# EAGLE library part TBA800 (library Audio-Power-amlifier)
http://www.datasheetcatalog.org/datasheets/480/499897_DS.pdf
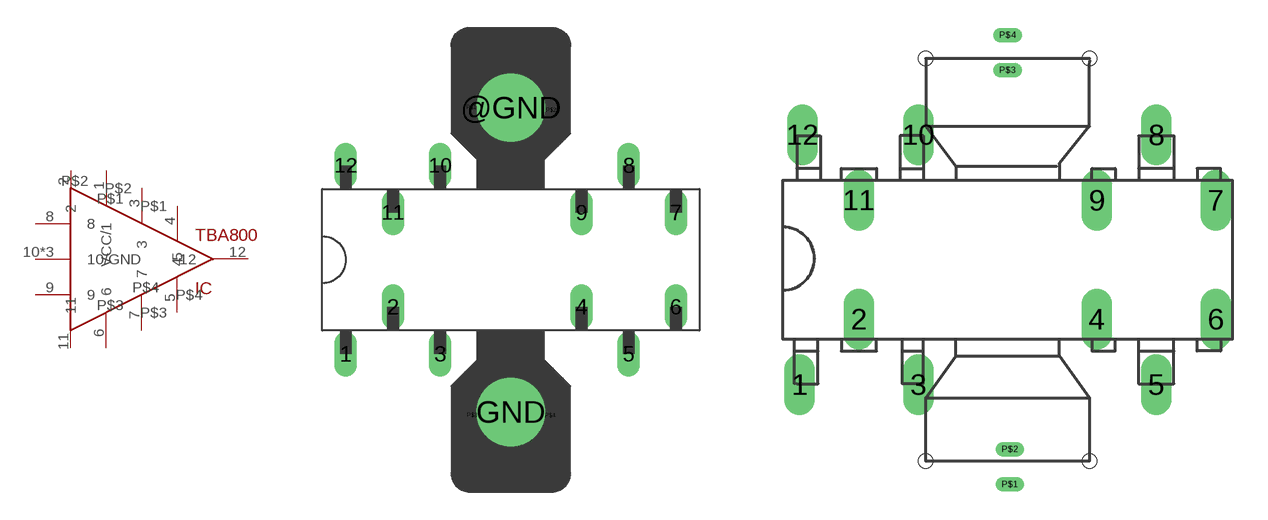
[diagram p21: symbol with the pads of CE82; footprints CE82, FINDIP12]

Designator prefix IC

## TBA800CB-155  [CE82]
1  VCC/1  pwr
2  2  nc
3  3
4  4
5  5
6  6
7  7
8  8  in
9  9  in
10  10/GND  pwr
11  11  nc
12  12  out
@GND  10/GND  pwr
GND  10/GND  pwr
P$1  P$1  pwr
P$2  P$2  pwr
P$3  P$3  pwr
P$4  P$4  pwr

## TBA800  [FINDIP12]
1  VCC/1  pwr
2  2  nc
3  3
4  4
5  5
6  6
7  7
8  8  in
9  9  in
10  10/GND  pwr
11  11  nc
12  12  out
P$1  P$1  pwr
P$2  P$2  pwr
P$3  P$3  pwr
P$4  P$4  pwr

## Footprint CE82 (pad centres in mm)
Package DIL 16 (CE83)
drill 0.7 long: 1 -8.89,-5.08; 2 -6.35,-2.54; 3 -3.81,-5.08; 4 3.81,-2.54; 5 6.35,-5.08; 6 8.89,-2.54; 7 8.89,2.54; 8 6.35,5.08; 9 3.81,2.54; 10 -3.81,5.08; 11 -6.35,2.54; 12 -8.89,5.08
drill 3.8: @GND 0,8.2; GND 0,-8.2
drill 0 pad 0.254: P$1 -2.12,8.22; P$2 2.17,8.07; P$3 -2.08,-8.37; P$4 2.12,-8.39

## Footprint FINDIP12 (pad centres in mm)
drill 0.8 long: 1 -8.89,-5.334; 2 -6.35,-2.54; 3 -3.81,-5.334; 4 3.81,-2.54; 5 6.35,-5.334; 6 8.89,-2.54; 7 8.89,2.54; 8 6.35,5.334; 9 3.81,2.54; 10 -3.81,5.334; 11 -6.35,2.54; 12 -8.763,5.334
drill 0 pad 0.61 long: P$1 0.1,-9.6; P$2 0.1,-8.1; P$3 0,8.1; P$4 0,9.6
hole 0.6 at -3.5,-8.6
hole 0.6 at 3.5,-8.6
hole 0.6 at 3.5,8.6
hole 0.6 at -3.5,8.6